# Altium schematic symbol library Net Tie.SchLib: 1 symbol
Pins are listed as number, name and electrical type; pins without a type are passive.

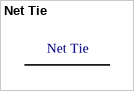
[diagram p0: symbol Net Tie]

## Net Tie
designator Net Tie  (net tie, no BOM)
footprint net_tie
footprint net_tie
pins: 0, 1